# Altium schematic symbol library TPS25921ADR.SchLib: 1 symbol
Pins are listed as number, name and electrical type; pins without a type are passive.

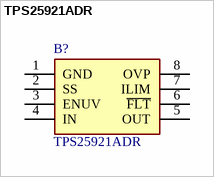
[diagram p0: symbol TPS25921ADR]

## TPS25921ADR
designator B?
18V, 1.6A, 90m eFuse with Adjustable +/-2% Accurate Current Limit; Manufacturer_Name: Texas Instruments; Geometry.Height: 1.75mm; Mouser Part Number: 595-TPS25921ADR; Mouser Price/Stock: https://www.mouser.co.uk/ProductDetail/Texas-Instruments/TPS25921ADR?qs=m%2F7bTylgptfvwfVPRm0ALQ%3D%3D; Manufacturer_Part_Number: TPS25921ADR; Datasheet Link: http://www.ti.com/lit/gpn/tps25921a
footprint SOIC127P600X175-8N
pins: 1 GND, 2 SS, 3 ENUV, 4 IN, 5 OUT, 6 ~{FLT}, 7 ILIM, 8 OVP